# EAGLE library part PCW1D-C24-KAB104L (library PCW1D-C24-KAB104L)
Potentiometers 100K 20% Sq 22mm Single Turn Source: Datasheet <https://www.bourns.com/docs/Product-Datasheets/slimline.pdf>
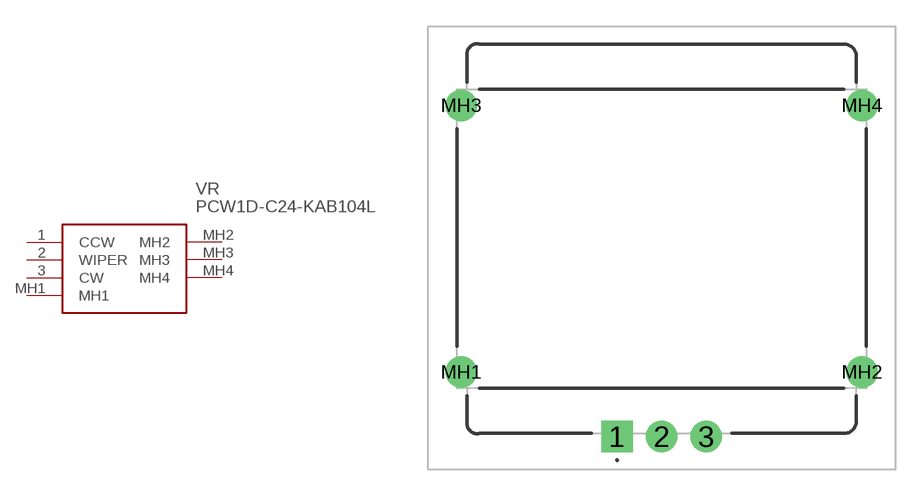
[diagram p0: symbol with the pads of PCW1DC24KAB104L; footprint PCW1DC24KAB104L]

Designator prefix VR

## PCW1D-C24-KAB104L (Description: Potentiometers 100K 20% Sq 22mm Single Turn; Height: 27.31mm; Manufacturer_Name: Bourns; Manufacturer_Part_Number: PCW1D-C24-KAB104L)  [PCW1DC24KAB104L]
1  CCW
2  WIPER
3  CW
MH1  MH1
MH2  MH2
MH3  MH3
MH4  MH4

## Footprint PCW1DC24KAB104L (pad centres in mm)
PCW1D-C24-KAB104L-1
drill 1.19 pad 1.785 square: 1 0,0
drill 1.19 pad 1.785: 2 2.54,0; 3 5.08,0; MH1 -8.89,3.67; MH2 13.97,3.67; MH3 -8.89,18.87; MH4 13.97,18.87